# Altium footprint library SwipingCard.PcbLib: 14 footprints
Each footprint in its own frame and in the unit in brackets; x right, y up, seen from the top. Pads: shape width x height; smd on the part's side, far side on the other; paste and mask are expansions set on the pad; w line width, h text height; cw(c..) or ccw(c..) is an arc to the next point about the centre after c.
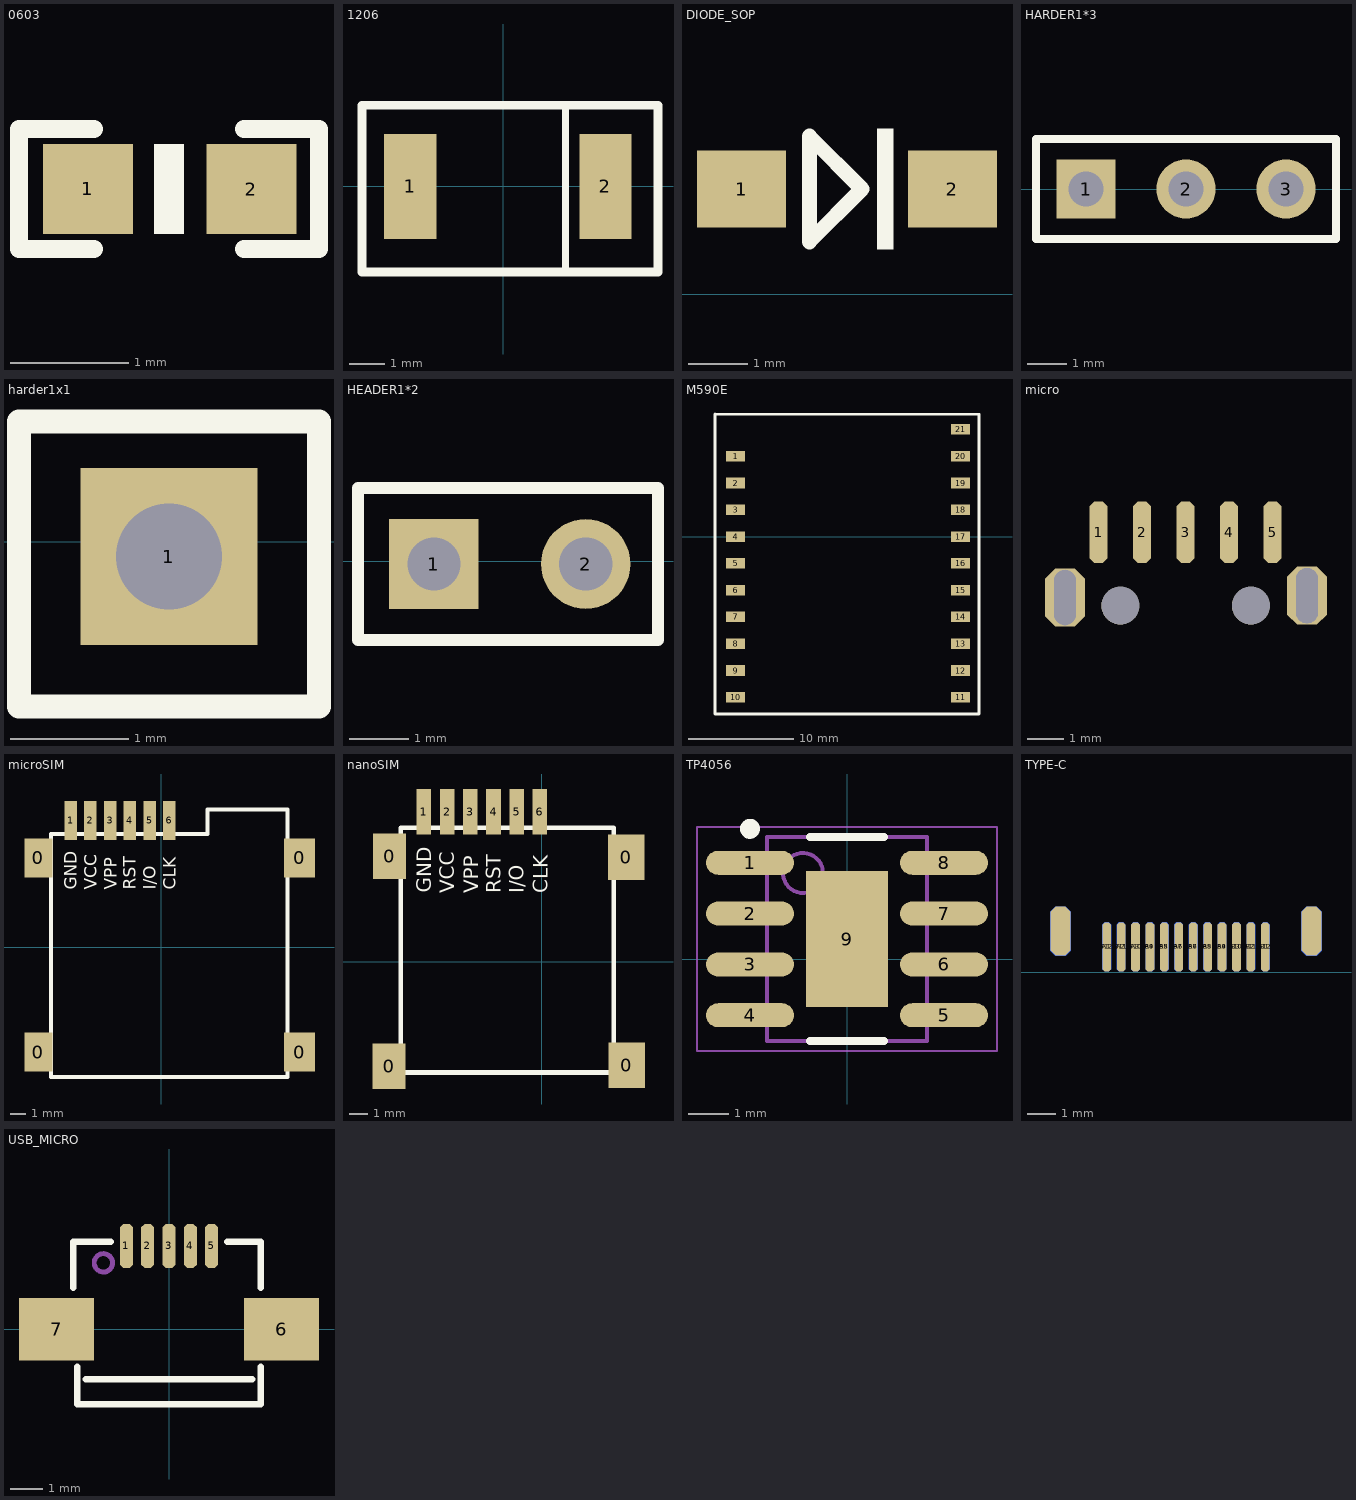
[diagram p0: the footprints below, top view; thin cyan lines are the x and y axes]

## 0603 [mil]
pads (2):
  rect 30x30 smd: 1(-373.93,-57.09) 2(-319.43,-57.15)
Top Overlay:
  region: -341.93,-72.15 -341.93,-42.15 -351.93,-42.15 -351.93,-72.15
  lines w6: -371.93,-77.15 -396.93,-77.15 -396.93,-37.15 -371.93,-37.15 ; -321.93,-77.15 -296.93,-77.15 -296.93,-37.15 -321.93,-37.15

## 1206 [mm] "钽电容"
pads (2):
  rect 1.5x3 smd: 1(-2.667,0) 2(2.921,0)
Top Overlay:
  lines w0.203: 1.775,-2.475 1.775,2.275
  lines w0.254: -4.05,-2.45 4.425,-2.45 4.425,2.325 -4.05,2.325 -4.05,-2.45

## DIODE_SOP [mm]
pads (2):
  rect 1.5x1.3 smd: 1(-10.16,1.778) 2(-6.604,1.778)
Top Overlay:
  rectangle: -7.874,0.762 -7.601,2.794
  lines w0.254: -9.017,0.889 -9.017,2.667 -8.128,1.778 -9.017,0.889

## HARDER1*3 [mm]
pads (3):
  rect 1.5x1.5 hole 0.889: 1(-7.874,0)
  round 1.5 hole 0.889: 2(-5.334,0) 3(-2.794,0)
Top Overlay:
  lines w0.2: -9.144,-1.27 -1.524,-1.27 -1.524,1.27 -9.144,1.27 -9.144,-1.27

## harder1x1 [mm]
pads (1):
  rect 1.5x1.5 hole 0.9: 1(-4.826,-0.127)
Top Overlay:
  lines w0.2: -6.096,-1.397 -3.556,-1.397 -3.556,1.016 -6.096,1.016 -6.096,-1.397

## HEADER1*2 [mm]
pads (2):
  rect 1.5x1.5 hole 0.889: 1(-4.124,-0.05)
  round 1.5 hole 0.889: 2(-1.584,-0.05)
Top Overlay:
  lines w0.2: -5.394,-1.32 -0.375,-1.32 -0.375,1.22 -5.394,1.22 -5.394,-1.32

## Lightning [mm]

## M590E [mm]
pads (21):
  rect 1.8x1 smd: 1(11.684,7.62) 2(11.684,5.08) 3(11.684,2.54) 4(11.684,0) 5(11.684,-2.54) 6(11.684,-5.08) 7(11.684,-7.62) 8(11.684,-10.16) 9(11.684,-12.7) 10(11.684,-15.24) 11(33.02,-15.24) 12(33.02,-12.7) 13(33.02,-10.16) 14(33.02,-7.62) 15(33.02,-5.08) 16(33.02,-2.54) 17(33.02,0) 18(33.02,2.54) 19(33.02,5.08) 20(33.02,7.62) 21(33.02,10.16)
Top Overlay:
  lines w0.254: 9.725,11.625 9.725,-16.825 34.75,-16.825 34.75,11.6 ; 9.725,11.625 34.7,11.6

## micro [mm]
pads (9):
  oct 0.5x1.7 smd: 1(48.483,13.079) 2(49.683,13.079) 3(50.883,13.079) 4(52.083,13.079) 5(53.283,13.079)
  oct 1.1x1.6 hole 1.524 slot 0.6 at 0 deg: ""(47.558,11.279) ""(54.233,11.329)
  round 1.041 hole 1.05: ""(49.083,11.054) ""(52.683,11.054)

## microSIM [mm]
pads (10):
  rect 1.8x2.5 smd: 0(-7.902,-6.756) 0(-7.902,5.744)
  rect 2x2.5 smd: 0(8.898,-6.756) 0(8.898,5.744)
  rect 0.8x2.5 smd: 1(-5.832,8.154) 2(-4.562,8.154) 3(-3.292,8.154) 4(-2.022,8.154) 5(-0.752,8.154) 6(0.518,8.154)
Top Overlay:
  lines w0.254: 2.972,8.864 8.118,8.864 8.118,-8.356 -7.102,-8.356 -7.102,7.284 2.978,7.284 2.982,7.28 ; 2.978,7.28 2.978,8.814
  text "I/O" at -0.356,3.683 h0.8
  text "VPP" at -2.87,3.683 h0.8
  text "GND" at -5.436,3.708 h0.8
  text "CLK" at 0.94,3.683 h0.8
  text "RST" at -1.626,3.683 h0.8
  text "VCC" at -4.166,3.683 h0.8
3D body "User Library-Sim Holder.step": height 1.35, standoff 0, extent -7.566,-8.536 8.834,8.664

## nanoSIM [mm]
pads (10):
  rect 1.8x2.5 smd: 0(-8.35,-5.725) 0(-8.325,5.775)
  rect 2x2.5 smd: 0(4.65,5.725) 0(4.675,-5.675)
  rect 0.8x2.5 smd: 1(-6.442,8.205) 2(-5.172,8.205) 3(-3.902,8.205) 4(-2.632,8.205) 5(-1.362,8.205) 6(-0.092,8.205)
Top Overlay:
  lines w0.254: 2.368,7.331 3.95,7.331 3.95,-6.075 -7.712,-6.075 -7.712,7.335 2.368,7.335 2.372,7.331
  text "I/O" at -0.965,3.734 h0.8
  text "VPP" at -3.48,3.734 h0.8
  text "GND" at -6.045,3.759 h0.8
  text "CLK" at 0.33,3.734 h0.8
  text "RST" at -2.235,3.734 h0.8
  text "VCC" at -4.775,3.734 h0.8

## TP4056 [mm]
pads (9):
  oval 2.2x0.6 smd: 1(-2.425,2.413) 2(-2.425,1.143) 3(-2.425,-0.127) 4(-2.425,-1.397) 5(2.425,-1.397) 6(2.425,-0.127) 7(2.425,1.143) 8(2.425,2.413)
  rect 2.05x3.41 smd: 9(0,0.508)
Top Overlay:
  circle w0.25: c-2.425,3.263 r0.125
  lines w0.2: -0.925,-2.042 0.925,-2.042 ; -0.925,3.058 0.925,3.058
Mechanical 13:
  circle w0.1: c-1.1,2.158 r0.5
  lines w0.1: -2,-2.042 2,-2.042 2,3.058 -2,3.058 -2,-2.042
Mechanical 15:
  lines w0.05: -3.75,-2.292 3.75,-2.292 3.75,3.308 -3.75,3.308 -3.75,-2.292
  lines w0.1: -0.5,0.508 0.5,0.508 ; 0,0.008 0,1.008
3D body: height 1.75, standoff 0.1, extent -2,-2.042 2,3.058

## TYPE-C [mm]
pads (28):
  oct 0.3x1.7 smd: A1(-11.988,0.886) A2(-11.488,0.886) A3(-10.988,0.886) A4(-10.488,0.886) A5(-9.988,0.886) A6(-9.488,0.886) A7(-8.988,0.886) A8(-8.488,0.886) A9(-7.988,0.886) A10(-7.488,0.886) A11(-6.988,0.886) A12(-6.488,0.886)
  oct 0.3x1.7 smd far side: B1(-6.488,0.886) B2(-6.988,0.886) B3(-7.488,0.886) B4(-7.988,0.886) B5(-8.488,0.886) B6(-8.988,0.886) B7(-9.5,0.889) B8(-9.988,0.886) B9(-10.488,0.886) B10(-10.988,0.886) B11(-11.488,0.886) B12(-11.988,0.886)
  oct 0.7x1.7 smd: ""(-13.588,1.436) ""(-4.888,1.436)
  oct 0.7x1.7 smd far side: ""(-13.588,1.436) ""(-4.888,1.436)

## USB_MICRO [mm] "USB方孔"
height 8
pads (7):
  oct 0.4x1.35 smd: 1(-1.3,2.54) 2(-0.65,2.54) 3(0,2.54) 4(0.65,2.54) 5(1.3,2.54)
  rect 2.286x1.9 smd: 6(3.429,0) 7(-3.429,0)
Top Overlay:
  lines w0.2: -2.921,1.27 -2.921,2.667 -1.778,2.667 ; -2.794,-1.143 -2.794,-2.286 2.794,-2.286 2.794,-1.143 ; -2.54,-1.524 2.54,-1.524 ; 1.778,2.667 2.794,2.667 2.794,1.27
Mechanical 1:
  circle w0.15: c-2,2.023 r0.28